# Altium footprint library HF-SMD0504.PcbLib: 1 footprints
Each footprint in its own frame and in the unit in brackets; x right, y up, seen from the top. Pads: shape width x height; smd on the part's side, far side on the other; paste and mask are expansions set on the pad; w line width, h text height; cw(c..) or ccw(c..) is an arc to the next point about the centre after c.
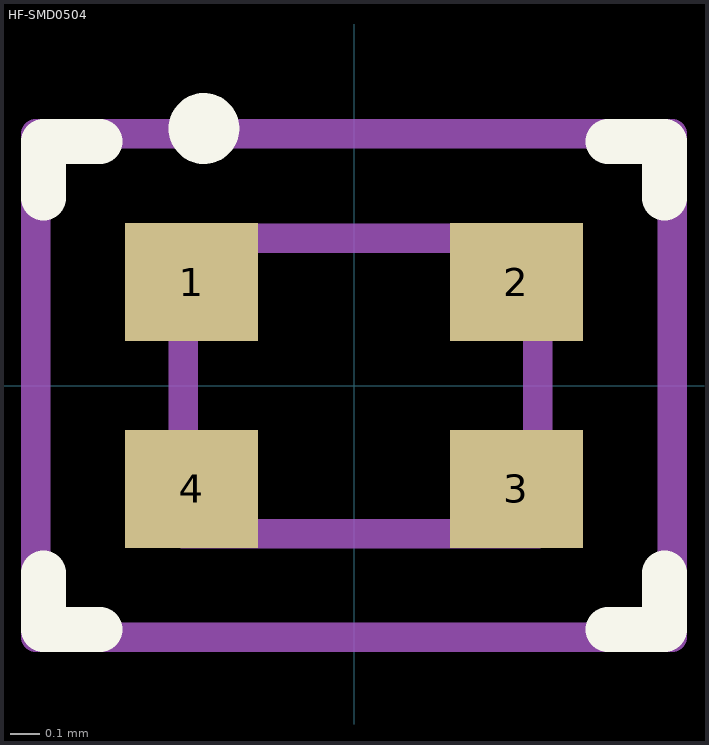
[diagram p0: the footprint, top view; thin cyan lines are the x and y axes]

## HF-SMD0504 [mm] "Pitch1.1mm Body1.2X1mm High0.9mm"
height 0.9
pads (4):
  rect 0.45x0.4 smd: 1(-0.55,0.35) 2(0.55,0.35) 3(0.55,-0.35) 4(-0.55,-0.35)
Top Overlay:
  circle w0.12: c-0.508,0.87 r0.06
  lines w0.152: -1.051,-0.635 -1.051,-0.826 -0.86,-0.826 ; -1.051,0.635 -1.051,0.826 -0.86,0.826 ; 0.86,-0.826 1.051,-0.826 1.051,-0.635 ; 0.86,0.826 1.051,0.826 1.051,0.635
Mechanical 13:
  lines w0.1: -0.578,-0.501 -0.578,0.499 0.622,0.499 0.622,-0.501 -0.578,-0.501
Mechanical 15:
  lines w0.1: -1.077,-0.852 1.077,-0.852 1.077,0.852 -1.077,0.852 -1.077,-0.852
3D body: height 0.88, standoff -0.02, extent -0.578,-0.501 0.622,0.499